# Altium footprint library M12B05PFFREE0001.PcbLib: 1 footprints
Each footprint in its own frame and in the unit in brackets; x right, y up, seen from the top. Pads: shape width x height; smd on the part's side, far side on the other; paste and mask are expansions set on the pad; w line width, h text height; cw(c..) or ccw(c..) is an arc to the next point about the centre after c.
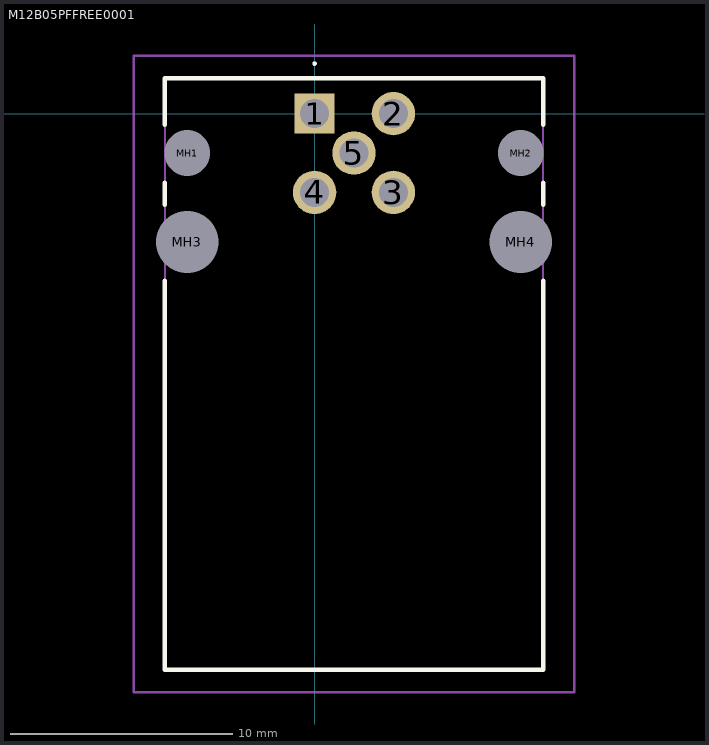
[diagram p0: the footprint, top view; thin cyan lines are the x and y axes]

## M12B05PFFREE0001 [mm]
pads (9):
  rect 1.8x1.8 hole 1.3: 1(0,0)
  round 1.95 hole 1.3: 2(3.54,0) 3(3.54,-3.54) 4(0,-3.54) 5(1.77,-1.77)
  round 1.025 hole 2.05 unplated: MH1(-5.73,-1.77) MH2(9.27,-1.77)
  round 1.4 hole 2.8 unplated: MH3(-5.73,-5.77) MH4(9.27,-5.77)
Top Overlay:
  lines w0.1: 0,2.2 0,2.2 ; 0,2.2 ccw(c0,2.25) 0,2.3 ; 0,2.2 cw(c0,2.25) 0,2.3 ; 0,2.3 0,2.3
  lines w0.2: -6.73,-7.5 -6.73,-25 10.27,-25 10.27,-7.5 ; -6.73,-4.1 -6.73,-3.1 ; -6.73,-0.5 -6.73,1.6 10.27,1.6 10.27,-0.5 ; 10.27,-4.1 10.27,-3.1
Mechanical 15:
  lines w0.1: -6.73,-25 10.27,-25 10.27,1.6 -6.73,1.6 -6.73,-25
Mechanical 20:
  lines w0.1: -8.13,-26 11.67,-26 11.67,2.6 -8.13,2.6 -8.13,-26